# Altium integrated library BCR135.IntLib: 1 symbol
Pins are listed as number, name and electrical type; pins without a type are passive.

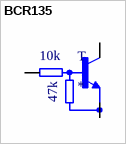
[diagram p0: symbol BCR135]

## BCR135
designator T
Pre-Biased Bipolar Transistor _BJT_ NPN - Pre-Biased 50V 100mA 150MHz 200mW Surface Mount SOT-23-3; MF: Infineon Technologies; MP: BCR135; Package: SOT-23 Infineon; Availability: Unavailable; Value: *; SnapEDA_Link: https://www.snapeda.com/parts/BCR135/Infineon%20Technologies/view-part/576788/?ref=snap; Price: None
footprint SOT23-BEC
pins: B, C, E
text: 10k; 47k